# Altium footprint library Capacitor_SMD.PcbLib: 101 footprints (part 7 of 7)
Each footprint in its own frame and in the unit in brackets; x right, y up, seen from the top. Pads: shape width x height; smd on the part's side, far side on the other; paste and mask are expansions set on the pad; w line width, h text height; cw(c..) or ccw(c..) is an arc to the next point about the centre after c.
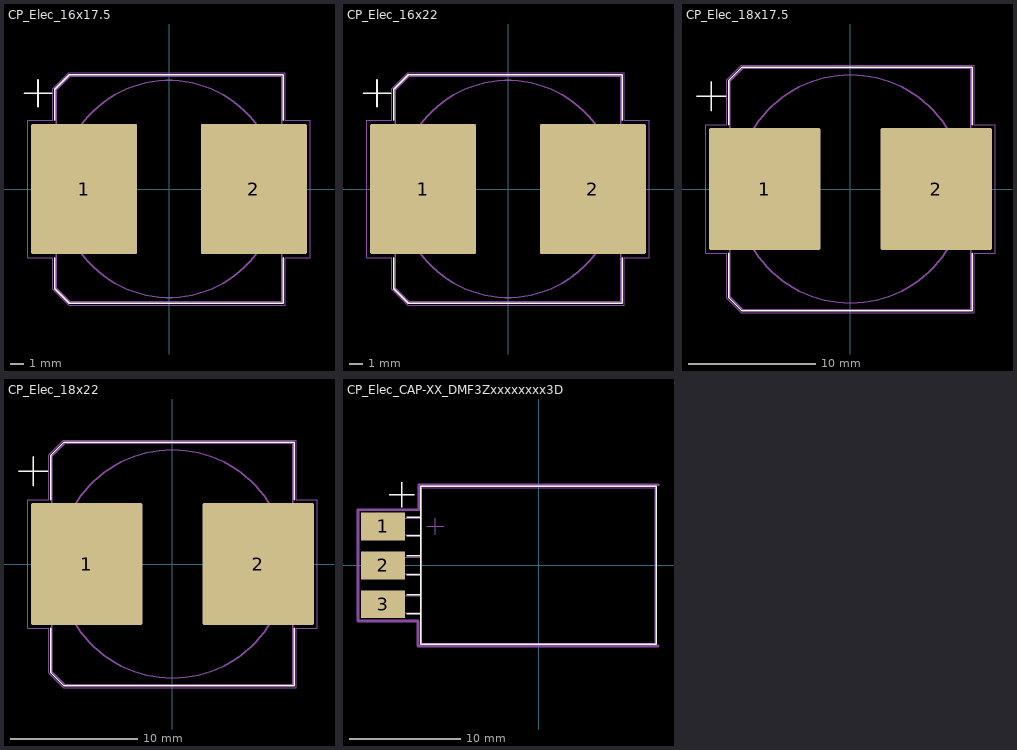
[diagram p6: the footprints below, top view; thin cyan lines are the x and y axes]

## CP_Elec_16x17.5 [mm]
pads (2):
  rrect3% 7.8x9.6 smd: 1(-6.25,0) 2(6.25,0)
F.SilkS:
  lines w0.12: -10.65,7.06 -8.65,7.06 ; -9.65,6.06 -9.65,8.06 ; -8.41,-5.06 -8.41,-7.346 -7.346,-8.41 8.41,-8.41 8.41,-5.06 ; -8.41,5.06 -8.41,7.346 -7.346,8.41 8.41,8.41 8.41,5.06
F.CrtYd:
  lines w0.05: -10.4,-5.05 -10.4,5.05 -8.55,5.05 -8.55,7.4 -7.4,8.55 8.55,8.55 8.55,5.05 10.4,5.05 10.4,-5.05 8.55,-5.05 8.55,-8.55 -7.4,-8.55 -8.55,-7.4 -8.55,-5.05 -10.4,-5.05
F.Fab:
  circle w0.1: c0,0 r8
  lines w0.1: -7.517,2.3 -5.917,2.3 ; -6.717,1.5 -6.717,3.1 ; -8.3,-7.3 -7.3,-8.3 8.3,-8.3 8.3,8.3 -7.3,8.3 -8.3,7.3 -8.3,-7.3
  text "'.Designator'" at -4.047,-0.84 h1
3D body "CP_Elec_16x17.5.step": height 17.5, standoff 0, extent -9.3,-8.3 9.3,8.3

## CP_Elec_16x22 [mm]
pads (2):
  rrect3% 7.8x9.6 smd: 1(-6.25,0) 2(6.25,0)
F.SilkS:
  lines w0.12: -10.65,7.06 -8.65,7.06 ; -9.65,6.06 -9.65,8.06 ; -8.41,-5.06 -8.41,-7.346 -7.346,-8.41 8.41,-8.41 8.41,-5.06 ; -8.41,5.06 -8.41,7.346 -7.346,8.41 8.41,8.41 8.41,5.06
F.CrtYd:
  lines w0.05: -10.4,-5.05 -8.55,-5.05 -8.55,-7.4 -7.4,-8.55 8.55,-8.55 8.55,-5.05 10.4,-5.05 10.4,5.05 8.55,5.05 8.55,8.55 -7.4,8.55 -8.55,7.4 -8.55,5.05 -10.4,5.05 -10.4,-5.05
F.Fab:
  circle w0.1: c0,0 r8
  lines w0.1: -7.517,2.3 -5.917,2.3 ; -6.717,1.5 -6.717,3.1 ; -8.3,-7.3 -8.3,7.3 -7.3,8.3 8.3,8.3 8.3,-8.3 -7.3,-8.3 -8.3,-7.3
  text "'.Designator'" at -4.047,-0.84 h1
3D body "CP_Elec_16x22.step": height 22, standoff 0, extent -9.3,-8.3 9.3,8.3

## CP_Elec_18x17.5 [mm]
pads (2):
  rrect3% 8.8x9.6 smd: 1(-6.75,0) 2(6.75,0)
F.SilkS:
  lines w0.12: -12.1,7.31 -9.85,7.31 ; -10.975,6.185 -10.975,8.435 ; -9.61,-5.06 -9.61,-8.546 -8.546,-9.61 9.61,-9.61 9.61,-5.06 ; -9.61,5.06 -9.61,8.546 -8.546,9.61 9.61,9.61 9.61,5.06
F.CrtYd:
  lines w0.05: -11.4,-5.05 -9.75,-5.05 -9.75,-8.6 -8.6,-9.75 9.75,-9.75 9.75,-5.05 11.4,-5.05 11.4,5.05 9.75,5.05 9.75,9.75 -8.6,9.75 -9.75,8.6 -9.75,5.05 -11.4,5.05 -11.4,-5.05
F.Fab:
  circle w0.1: c0,0 r9
  lines w0.1: -8.499,2.5 -6.699,2.5 ; -7.599,1.6 -7.599,3.4 ; -9.5,-8.5 -8.5,-9.5 9.5,-9.5 9.5,9.5 -8.5,9.5 -9.5,8.5 -9.5,-8.5
  text "'.Designator'" at -4.047,-0.84 h1
3D body "CP_Elec_18x17.5.step": height 17.5, standoff 0, extent -10.5,-9.5 10.5,9.5

## CP_Elec_18x22 [mm]
pads (2):
  rrect3% 8.8x9.6 smd: 1(-6.75,0) 2(6.75,0)
F.SilkS:
  lines w0.12: -12.1,7.31 -9.85,7.31 ; -10.975,6.185 -10.975,8.435 ; -9.61,-5.06 -9.61,-8.546 -8.546,-9.61 9.61,-9.61 9.61,-5.06 ; -9.61,5.06 -9.61,8.546 -8.546,9.61 9.61,9.61 9.61,5.06
F.CrtYd:
  lines w0.05: -11.4,-5.05 -9.75,-5.05 -9.75,-8.6 -8.6,-9.75 9.75,-9.75 9.75,-5.05 11.4,-5.05 11.4,5.05 9.75,5.05 9.75,9.75 -8.6,9.75 -9.75,8.6 -9.75,5.05 -11.4,5.05 -11.4,-5.05
F.Fab:
  circle w0.1: c0,0 r9
  lines w0.1: -8.499,2.5 -6.699,2.5 ; -7.599,1.6 -7.599,3.4 ; -9.5,-8.5 -9.5,8.5 -8.5,9.5 9.5,9.5 9.5,-9.5 -8.5,-9.5 -9.5,-8.5
  text "'.Designator'" at -4.047,-0.84 h1
3D body "CP_Elec_18x22.step": height 22, standoff 0, extent -10.5,-9.5 10.5,9.5

## CP_Elec_CAP-XX_DMF3Zxxxxxxxx3D [mm]
pads (3):
  rect 4x2.5 smd: 1(-14,3.5) 2(-14,0) 3(-14,-3.5)
F.SilkS:
  lines w0.12: -13.425,6.375 -11.175,6.375 ; -12.3,5.25 -12.3,7.5 ; -11.875,-4.35 -10.625,-4.35 ; -11.875,-2.65 -10.625,-2.65 ; -11.875,-0.85 -10.625,-0.85 ; -11.875,0.85 -10.625,0.85 ; -11.875,2.65 -10.625,2.65 ; -11.85,4.35 -10.6,4.35 ; -10.6,-7.1 10.6,-7.1 10.6,7.1 -10.6,7.1 -10.6,-7.1
F.CrtYd:
  lines w0.254: 10.75,-7.25 -10.85,-7.25 -10.85,-5 -16.25,-5 -16.25,5 -10.75,5 -10.75,7.25 10.75,7.25
F.Fab:
  lines w0.1: -10.5,-4.249 -14.801,-4.249 -14.801,-2.751 -10.5,-2.751 ; -10.5,-0.749 -14.801,-0.749 -14.801,0.749 -10.5,0.749 ; -10.5,2.751 -14.801,2.751 -14.801,4.249 -10.5,4.249 ; -10.05,3.5 -8.55,3.5 ; -9.3,2.75 -9.3,4.25 ; -15,-4.35 -15,-2.65 -13.1,-2.65 -13.1,-4.35 -15,-4.35 ; -15,-0.85 -15,0.85 -13.1,0.85 -13.1,-0.85 -15,-0.85 ; -15,2.65 -13.1,2.65 -13.1,4.35 -15,4.35 -15,2.65 ; -10.5,-7 -10.5,7 10.5,7 10.5,-7 -10.5,-7
  text "'.Designator'" at -4.047,-0.84 h1